# Altium footprint library Adams Altium Library.PcbLib: 104 footprints (part 7 of 7)
Each footprint in its own frame and in the unit in brackets; x right, y up, seen from the top. Pads: shape width x height; smd on the part's side, far side on the other; paste and mask are expansions set on the pad; w line width, h text height; cw(c..) or ccw(c..) is an arc to the next point about the centre after c.
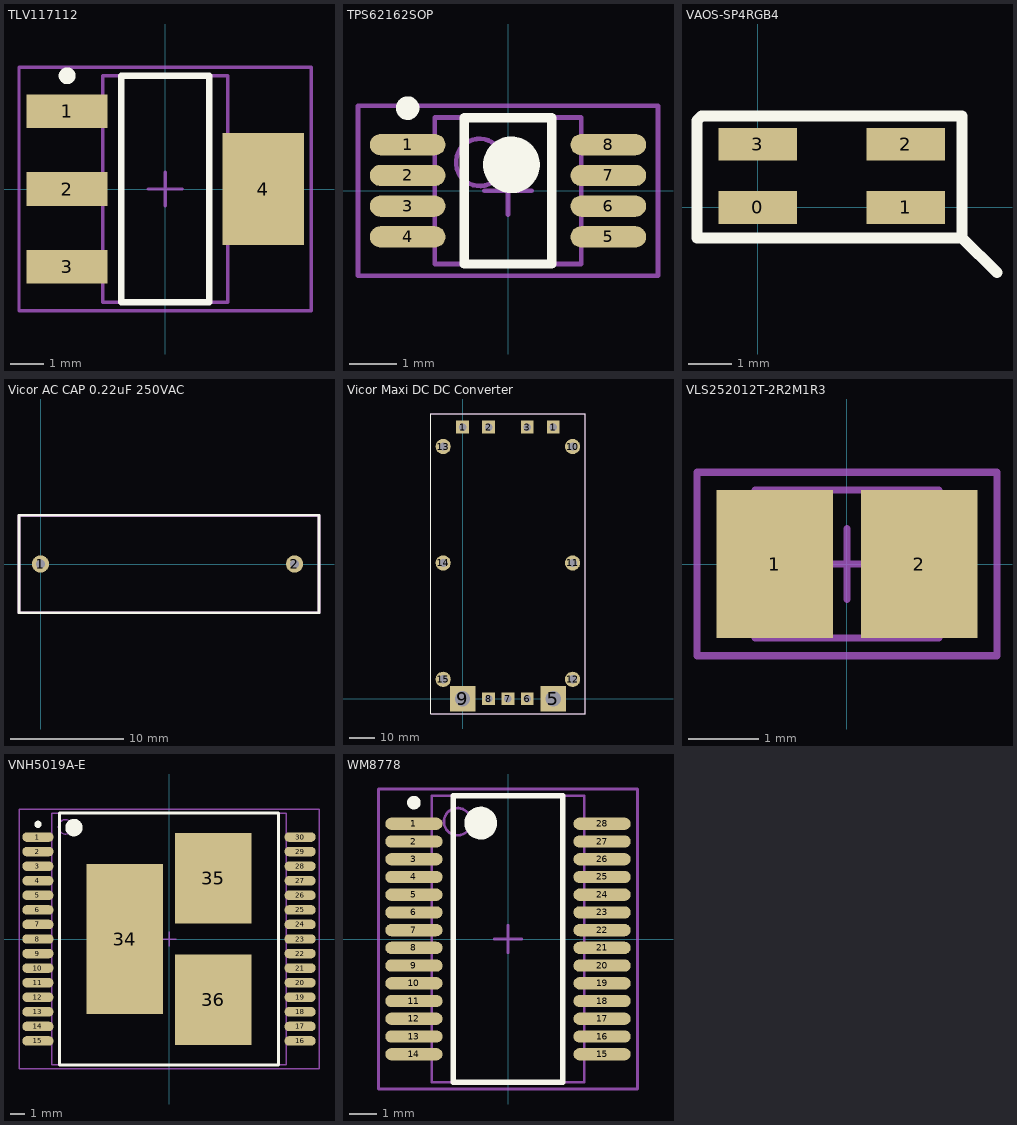
[diagram p6: the footprints below, top view; thin cyan lines are the x and y axes]

## TLV117112 [mm] "SOT223, 4-Leads, Body 6.7x7.3mm (max), Pitch 2.30mm, IPC Medium Density"
height 1.8
pads (4):
  rect 2.4x1 smd: 1(-2.9,2.3) 2(-2.9,0) 3(-2.9,-2.3)
  rect 2.4x3.3 smd: 4(2.9,0)
Top Overlay:
  circle w0.25: c-2.9,3.35 r0.125
  lines w0.2: -1.3,-3.35 1.3,-3.35 1.3,3.35 -1.3,3.35 -1.3,-3.35
Mechanical 13:
  lines w0.1: -1.85,-3.35 1.85,-3.35 1.85,3.35 -1.85,3.35 -1.85,-3.35
Mechanical 15:
  lines w0.1: -0.5,0 0.5,0 ; 0,-0.5 0,0.5 ; -4.325,-3.6 4.325,-3.6 4.325,3.6 -4.325,3.6 -4.325,-3.6
3D body: height 1.8, standoff 0.02, extent -1.85,-3.35 1.85,3.35

## TPS62162SOP [mm] "SOP 8 pin package"
height 1.1
pads (8):
  oval 1.6x0.45 smd: 1(-2.125,0.975) 2(-2.125,0.325) 3(-2.125,-0.325) 4(-2.125,-0.975) 5(2.125,-0.975) 6(2.125,-0.325) 7(2.125,0.325) 8(2.125,0.975)
Top Overlay:
  circle w0.25: c-2.125,1.75 r0.125
  circle w0.6: c0.075,0.55 r0.3
  lines w0.2: -0.925,-1.55 -0.925,1.55 0.925,1.55 0.925,-1.55 -0.925,-1.55
Mechanical 13:
  circle w0.1: c-0.6,0.6 r0.5
  lines w0.1: -1.55,-1.55 -1.55,1.55 1.55,1.55 1.55,-1.55 -1.55,-1.55
Mechanical 15:
  lines w0.1: -0.5,0 0.5,0 ; 0,-0.5 0,0.5 ; -3.175,-1.8 -3.175,1.8 3.175,1.8 3.175,-1.8 -3.175,-1.8
3D body: height 1.1, standoff 0.23, extent -1.55,-1.55 1.55,1.55

## VAOS-SP4RGB4 [mm]
pads (4):
  rect 1.8x0.75 smd: 0(0,0) 1(3.4,0) 2(3.4,1.45) 3(0,1.45)
Top Overlay:
  lines w0.254: 5.5,-1.5 4.7,-0.7 ; 4.7,-0.7 -1.4,-0.7 -1.4,2 -1.3,2.1 4.7,2.1 4.7,-0.7

## Vicor AC CAP 0.22uF 250VAC [mil] "Vicor AC CAP"
height 649
pads (2):
  round 60 hole 31: 1(0,0) 2(885,0)
Top Overlay:
  lines w10: -75,-170 970,-170 970,170 -75,170 -75,-170
Mechanical 1:
  lines w10: -75,-170 970,-170 970,169 -75,169 -75,-165 -75,-170

## Vicor Maxi DC DC Converter [mm] "Vicor Maxi DC DC Converter"
height 10.9
pads (15):
  rect 5x5 hole 2.96: 1(0,106.7) 1(35.6,106.7) 2(10.2,106.7) 3(25.4,106.7) 6(25.4,0) 7(17.8,0) 8(10.2,0)
  rect 10x10 hole 5.96: 5(35.6,0) 9(0,0)
  round 6 hole 3.28: 10(43.22,99.06) 11(43.22,53.34) 12(43.22,7.62) 13(-7.62,99.06) 14(-7.62,53.34) 15(-7.62,7.62)
Top Overlay:
  lines w0.254: -12.446,-6 48.133,-6 48.133,111.84 -12.446,111.84 -12.446,-6
Mechanical 1:
  lines w0.254: -12.446,-6 -12.446,111.84 48.133,111.84 48.133,-6 -12.446,-6

## VLS252012T-2R2M1R3 [mm] "Precision Wire Wound Inductor, 2-Leads, Body 2.5x2.0mm, IPC Medium Density"
height 1.2
pads (2):
  rect 1.65x2.1 smd: 1(-1.025,0) 2(1.025,0)
Mechanical 13:
  lines w0.1: -1.3,-1.05 -1.3,1.05 1.3,1.05 1.3,-1.05 -1.3,-1.05
Mechanical 15:
  lines w0.1: -0.5,0 0.5,0 ; 0,-0.5 0,0.5 ; -2.125,-1.3 -2.125,1.3 2.125,1.3 2.125,-1.3 -2.125,-1.3
3D body: height 1.2, standoff 0, extent -1.3,-1.05 1.3,1.05

## VNH5019A-E [mm] "STMicroelectronics VNH5019A-E H-Bridge"
height 2.35
pads (33):
  oval 2.15x0.65 smd: 1(-9,7) 2(-9,6) 3(-9,5) 4(-9,4) 5(-9,3) 6(-9,2) 7(-9,1) 8(-9,0) 9(-9,-1) 10(-9,-2) 11(-9,-3) 12(-9,-4) 13(-9,-5) 14(-9,-6) 15(-9,-7) 16(9,-7) 17(9,-6) 18(9,-5) 19(9,-4) 20(9,-3) 21(9,-2) 22(9,-1) 23(9,0) 24(9,1) 25(9,2) 26(9,3) 27(9,4) 28(9,5) 29(9,6) 30(9,7)
  rect 5.25x10.3 smd: 34(-3.05,0)
  rect 5.25x6.23 smd: 35(3.05,4.165) 36(3.05,-4.165)
Top Overlay:
  circle w0.6: c-6.525,7.65 r0.3
  circle w0.25: c-9,7.875 r0.125
  lines w0.2: -7.525,-8.65 7.525,-8.65 7.525,8.65 -7.525,8.65 -7.525,-8.65
Mechanical 13:
  circle w0.1: c-7.1,7.7 r0.5
  lines w0.1: -8.05,-8.65 8.05,-8.65 8.05,8.65 -8.05,8.65 -8.05,-8.65
Mechanical 15:
  lines w0.1: -0.5,0 0.5,0 ; 0,-0.5 0,0.5 ; -10.3,-8.9 10.3,-8.9 10.3,8.9 -10.3,8.9 -10.3,-8.9
3D body: height 2.35, standoff 0.35, extent -8.05,-8.65 8.05,8.65

## WM8778 [mm] "SOP, 28 Pin Wolfson Audio WM8778 Audio Codec"
height 2
pads (28):
  oval 2.1x0.45 smd: 1(-3.45,4.225) 2(-3.45,3.575) 3(-3.45,2.925) 4(-3.45,2.275) 5(-3.45,1.625) 6(-3.45,0.975) 7(-3.45,0.325) 8(-3.45,-0.325) 9(-3.45,-0.975) 10(-3.45,-1.625) 11(-3.45,-2.275) 12(-3.45,-2.925) 13(-3.45,-3.575) 14(-3.45,-4.225) 15(3.45,-4.225) 16(3.45,-3.575) 17(3.45,-2.925) 18(3.45,-2.275) 19(3.45,-1.625) 20(3.45,-0.975) 21(3.45,-0.325) 22(3.45,0.325) 23(3.45,0.975) 24(3.45,1.625) 25(3.45,2.275) 26(3.45,2.925) 27(3.45,3.575) 28(3.45,4.225)
Top Overlay:
  circle w0.6: c-1,4.25 r0.3
  circle w0.25: c-3.45,5 r0.125
  lines w0.2: -2,-5.25 2,-5.25 2,5.25 -2,5.25 -2,-5.25
Mechanical 13:
  circle w0.1: c-1.85,4.3 r0.5
  lines w0.1: -2.8,-5.25 2.8,-5.25 2.8,5.25 -2.8,5.25 -2.8,-5.25
Mechanical 15:
  lines w0.1: -0.5,0 0.5,0 ; 0,-0.5 0,0.5 ; -4.75,-5.5 4.75,-5.5 4.75,5.5 -4.75,5.5 -4.75,-5.5
3D body: height 2, standoff 0.05, extent -2.8,-5.25 2.8,5.25